# EAGLE library part NS9360 (library lbm)
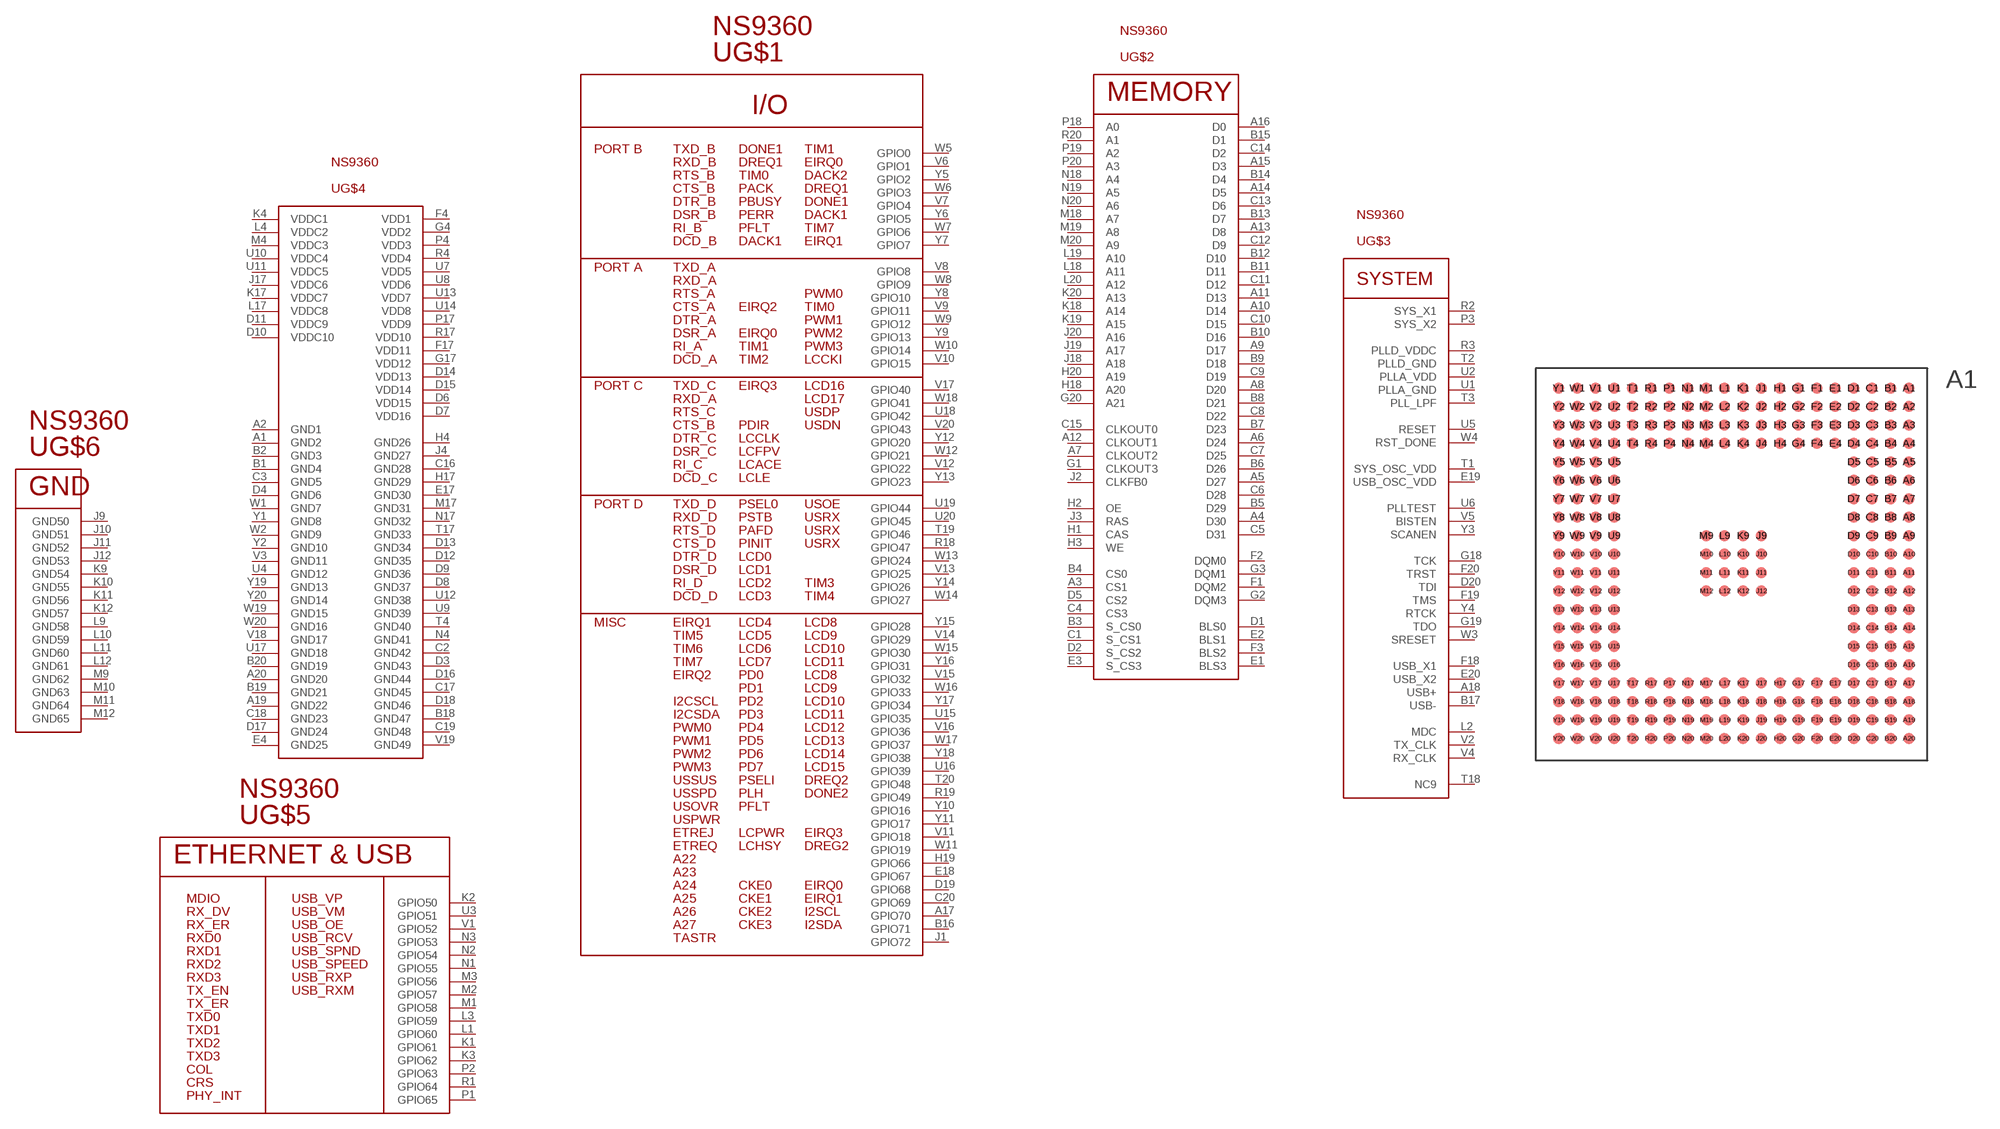
[diagram p20: symbol with the pads of NS9360; footprint NS9360]

Designator prefix -; gates G$1=NS9360_IO G$2=NS9360_MEMORY G$4=NS9360_POWER G$5=NS9360_ETHERNET_USB G$6=NS9360_GND G$3=NS9360_SYSTEM

## NS9360  [NS9360]
A1  G$4:GND2
A2  G$4:GND1
A3  G$2:CS1
A4  G$2:D30
A5  G$2:D27
A6  G$2:D24
A7  G$2:CLKOUT2
A8  G$2:D20
A9  G$2:D17
A10  G$2:D14
A11  G$2:D13
A12  G$2:CLKOUT1
A13  G$2:D8
A14  G$2:D5
A15  G$2:D3
A16  G$2:D0
A17  G$1:GPIO70
A18  G$3:USB+
A19  G$4:GND22
A20  G$4:GND20
B1  G$4:GND4
B2  G$4:GND3
B3  G$2:S_CS0
B4  G$2:CS0
B5  G$2:D29
B6  G$2:D26
B7  G$2:D23
B8  G$2:D21
B9  G$2:D18
B10  G$2:D16
B11  G$2:D11
B12  G$2:D10
B13  G$2:D7
B14  G$2:D4
B15  G$2:D1
B16  G$1:GPIO71
B17  G$3:USB-
B18  G$4:GND47
B19  G$4:GND21
B20  G$4:GND19
C1  G$2:S_CS1
C2  G$4:GND42
C3  G$4:GND5
C4  G$2:CS3
C5  G$2:D31
C6  G$2:D28
C7  G$2:D25
C8  G$2:D22
C9  G$2:D19
C10  G$2:D15
C11  G$2:D12
C12  G$2:D9
C13  G$2:D6
C14  G$2:D2
C15  G$2:CLKOUT0
C16  G$4:GND28
C17  G$4:GND45
C18  G$4:GND23
C19  G$4:GND48
C20  G$1:GPIO69
D1  G$2:BLS0
D2  G$2:S_CS2
D3  G$4:GND43
D4  G$4:GND6
D5  G$2:CS2
D6  G$4:VDD15
D7  G$4:VDD16
D8  G$4:GND37
D9  G$4:GND36
D10  G$4:VDDC10
D11  G$4:VDDC9
D12  G$4:GND35
D13  G$4:GND34
D14  G$4:VDD13
D15  G$4:VDD14
D16  G$4:GND44
D17  G$4:GND24
D18  G$4:GND46
D19  G$1:GPIO68
D20  G$3:TDI
E1  G$2:BLS3
E2  G$2:BLS1
E3  G$2:S_CS3
E4  G$4:GND25
E17  G$4:GND30
E18  G$1:GPIO67
E19  G$3:USB_OSC_VDD
E20  G$3:USB_X2
F1  G$2:DQM2
F2  G$2:DQM0
F3  G$2:BLS2
F4  G$4:VDD1
F17  G$4:VDD11
F18  G$3:USB_X1
F19  G$3:TMS
F20  G$3:TRST
G1  G$2:CLKOUT3
G2  G$2:DQM3
G3  G$2:DQM1
G4  G$4:VDD2
G17  G$4:VDD12
G18  G$3:TCK
G19  G$3:TDO
G20  G$2:A21
H1  G$2:CAS
H2  G$2:OE
H3  G$2:WE
H4  G$4:GND26
H17  G$4:GND29
H18  G$2:A20
H19  G$1:GPIO66
H20  G$2:A19
J1  G$1:GPIO72
J2  G$2:CLKFB0
J3  G$2:RAS
J4  G$4:GND27
J9  G$6:GND50
J10  G$6:GND51
J11  G$6:GND52
J12  G$6:GND53
J17  G$4:VDDC6
J18  G$2:A18
J19  G$2:A17
J20  G$2:A16
K1  G$5:GPIO61
K2  G$5:GPIO50
K3  G$5:GPIO62
K4  G$4:VDDC1
K9  G$6:GND54
K10  G$6:GND55
K11  G$6:GND56
K12  G$6:GND57
K17  G$4:VDDC7
K18  G$2:A14
K19  G$2:A15
K20  G$2:A13
L1  G$5:GPIO60
L2  G$3:MDC
L3  G$5:GPIO59
L4  G$4:VDDC2
L9  G$6:GND58
L10  G$6:GND59
L11  G$6:GND60
L12  G$6:GND61
L17  G$4:VDDC8
L18  G$2:A11
L19  G$2:A10
L20  G$2:A12
M1  G$5:GPIO58
M2  G$5:GPIO57
M3  G$5:GPIO56
M4  G$4:VDDC3
M9  G$6:GND62
M10  G$6:GND63
M11  G$6:GND64
M12  G$6:GND65
M17  G$4:GND31
M18  G$2:A7
M19  G$2:A8
M20  G$2:A9
N1  G$5:GPIO55
N2  G$5:GPIO54
N3  G$5:GPIO53
N4  G$4:GND41
N17  G$4:GND32
N18  G$2:A4
N19  G$2:A5
N20  G$2:A6
P1  G$5:GPIO65
P2  G$5:GPIO63
P3  G$3:SYS_X2
P4  G$4:VDD3
P17  G$4:VDD9
P18  G$2:A0
P19  G$2:A2
P20  G$2:A3
R1  G$5:GPIO64
R2  G$3:SYS_X1
R3  G$3:PLLD_VDDC
R4  G$4:VDD4
R17  G$4:VDD10
R18  G$1:GPIO47
R19  G$1:GPIO49
R20  G$2:A1
T1  G$3:SYS_OSC_VDD
T2  G$3:PLLD_GND
T3  G$3:PLL_LPF
T4  G$4:GND40
T17  G$4:GND33
T18  G$3:NC9
T19  G$1:GPIO46
T20  G$1:GPIO48
U1  G$3:PLLA_GND
U2  G$3:PLLA_VDD
U3  G$5:GPIO51
U4  G$4:GND12
U5  G$3:RESET
U6  G$3:PLLTEST
U7  G$4:VDD5
U8  G$4:VDD6
U9  G$4:GND39
U10  G$4:VDDC4
U11  G$4:VDDC5
U12  G$4:GND38
U13  G$4:VDD7
U14  G$4:VDD8
U15  G$1:GPIO35
U16  G$1:GPIO39
U17  G$4:GND18
U18  G$1:GPIO42
U19  G$1:GPIO44
U20  G$1:GPIO45
V1  G$5:GPIO52
V2  G$3:TX_CLK
V3  G$4:GND11
V4  G$3:RX_CLK
V5  G$3:BISTEN
V6  G$1:GPIO1
V7  G$1:GPIO4
V8  G$1:GPIO8
V9  G$1:GPIO11
V10  G$1:GPIO15
V11  G$1:GPIO18
V12  G$1:GPIO22
V13  G$1:GPIO25
V14  G$1:GPIO29
V15  G$1:GPIO32
V16  G$1:GPIO36
V17  G$1:GPIO40
V18  G$4:GND17
V19  G$4:GND49
V20  G$1:GPIO43
W1  G$4:GND7
W2  G$4:GND9
W3  G$3:SRESET
W4  G$3:RST_DONE
W5  G$1:GPIO0
W6  G$1:GPIO3
W7  G$1:GPIO6
W8  G$1:GPIO9
W9  G$1:GPIO12
W10  G$1:GPIO14
W11  G$1:GPIO19
W12  G$1:GPIO21
W13  G$1:GPIO24
W14  G$1:GPIO27
W15  G$1:GPIO30
W16  G$1:GPIO33
W17  G$1:GPIO37
W18  G$1:GPIO41
W19  G$4:GND15
W20  G$4:GND16
Y1  G$4:GND8
Y2  G$4:GND10
Y3  G$3:SCANEN
Y4  G$3:RTCK
Y5  G$1:GPIO2
Y6  G$1:GPIO5
Y7  G$1:GPIO7
Y8  G$1:GPIO10
Y9  G$1:GPIO13
Y10  G$1:GPIO16
Y11  G$1:GPIO17
Y12  G$1:GPIO20
Y13  G$1:GPIO23
Y14  G$1:GPIO26
Y15  G$1:GPIO28
Y16  G$1:GPIO31
Y17  G$1:GPIO34
Y18  G$1:GPIO38
Y19  G$4:GND13
Y20  G$4:GND14

## Footprint NS9360 (pad centres in mm)
smd 0.762 x 0.762: A1 0,0; A2 0,-1.27; A3 0,-2.54; A4 0,-3.81; A5 0,-5.08; A6 0,-6.35; A7 0,-7.62; A8 0,-8.89; A9 0,-10.16; A10 0,-11.43; A11 0,-12.7; A12 0,-13.97; A13 0,-15.24; A14 0,-16.51; A15 0,-17.78; A16 0,-19.05; A17 0,-20.32; A18 0,-21.59; A19 0,-22.86; A20 0,-24.13; B1 -1.27,0; B2 -1.27,-1.27; B3 -1.27,-2.54; B4 -1.27,-3.81; B5 -1.27,-5.08; B6 -1.27,-6.35; B7 -1.27,-7.62; B8 -1.27,-8.89; B9 -1.27,-10.16; B10 -1.27,-11.43; B11 -1.27,-12.7; B12 -1.27,-13.97; B13 -1.27,-15.24; B14 -1.27,-16.51; B15 -1.27,-17.78; B16 -1.27,-19.05; B17 -1.27,-20.32; B18 -1.27,-21.59; B19 -1.27,-22.86; B20 -1.27,-24.13; C1 -2.54,0; C2 -2.54,-1.27; C3 -2.54,-2.54; C4 -2.54,-3.81; C5 -2.54,-5.08; C6 -2.54,-6.35; C7 -2.54,-7.62; C8 -2.54,-8.89; C9 -2.54,-10.16; C10 -2.54,-11.43; C11 -2.54,-12.7; C12 -2.54,-13.97; C13 -2.54,-15.24; C14 -2.54,-16.51; C15 -2.54,-17.78; C16 -2.54,-19.05; C17 -2.54,-20.32; C18 -2.54,-21.59; C19 -2.54,-22.86; C20 -2.54,-24.13; D1 -3.81,0; D2 -3.81,-1.27; D3 -3.81,-2.54; D4 -3.81,-3.81; D5 -3.81,-5.08; D6 -3.81,-6.35; D7 -3.81,-7.62; D8 -3.81,-8.89; D9 -3.81,-10.16; D10 -3.81,-11.43; D11 -3.81,-12.7; D12 -3.81,-13.97; D13 -3.81,-15.24; D14 -3.81,-16.51; D15 -3.81,-17.78; D16 -3.81,-19.05; D17 -3.81,-20.32; D18 -3.81,-21.59; D19 -3.81,-22.86; D20 -3.81,-24.13; E1 -5.08,0; E2 -5.08,-1.27; E3 -5.08,-2.54; E4 -5.08,-3.81; E17 -5.08,-20.32; E18 -5.08,-21.59; E19 -5.08,-22.86; E20 -5.08,-24.13; F1 -6.35,0; F2 -6.35,-1.27; F3 -6.35,-2.54; F4 -6.35,-3.81; F17 -6.35,-20.32; F18 -6.35,-21.59; F19 -6.35,-22.86; F20 -6.35,-24.13; G1 -7.62,0; G2 -7.62,-1.27; G3 -7.62,-2.54; G4 -7.62,-3.81; G17 -7.62,-20.32; G18 -7.62,-21.59; G19 -7.62,-22.86; G20 -7.62,-24.13; H1 -8.89,0; H2 -8.89,-1.27; H3 -8.89,-2.54; H4 -8.89,-3.81; H17 -8.89,-20.32; H18 -8.89,-21.59; H19 -8.89,-22.86; H20 -8.89,-24.13; J1 -10.16,0; J2 -10.16,-1.27; J3 -10.16,-2.54; J4 -10.16,-3.81; J9 -10.16,-10.16; J10 -10.16,-11.43; J11 -10.16,-12.7; J12 -10.16,-13.97; J17 -10.16,-20.32; J18 -10.16,-21.59; J19 -10.16,-22.86; J20 -10.16,-24.13; K1 -11.43,0; K2 -11.43,-1.27; K3 -11.43,-2.54; K4 -11.43,-3.81; K9 -11.43,-10.16; K10 -11.43,-11.43; K11 -11.43,-12.7; K12 -11.43,-13.97; K17 -11.43,-20.32; K18 -11.43,-21.59; K19 -11.43,-22.86; K20 -11.43,-24.13; L1 -12.7,0; L2 -12.7,-1.27; L3 -12.7,-2.54; L4 -12.7,-3.81; L9 -12.7,-10.16; L10 -12.7,-11.43; L11 -12.7,-12.7; L12 -12.7,-13.97; L17 -12.7,-20.32; L18 -12.7,-21.59; L19 -12.7,-22.86; L20 -12.7,-24.13; M1 -13.97,0; M2 -13.97,-1.27; M3 -13.97,-2.54; M4 -13.97,-3.81; M9 -13.97,-10.16; M10 -13.97,-11.43; M11 -13.97,-12.7; M12 -13.97,-13.97; M17 -13.97,-20.32; M18 -13.97,-21.59; M19 -13.97,-22.86; M20 -13.97,-24.13; N1 -15.24,0; N2 -15.24,-1.27; N3 -15.24,-2.54; N4 -15.24,-3.81; N17 -15.24,-20.32; N18 -15.24,-21.59; N19 -15.24,-22.86; N20 -15.24,-24.13; P1 -16.51,0; P2 -16.51,-1.27; P3 -16.51,-2.54; P4 -16.51,-3.81; P17 -16.51,-20.32; P18 -16.51,-21.59; P19 -16.51,-22.86; P20 -16.51,-24.13; R1 -17.78,0; R2 -17.78,-1.27; R3 -17.78,-2.54; R4 -17.78,-3.81; R17 -17.78,-20.32; R18 -17.78,-21.59; R19 -17.78,-22.86; R20 -17.78,-24.13; T1 -19.05,0; T2 -19.05,-1.27; T3 -19.05,-2.54; T4 -19.05,-3.81; T17 -19.05,-20.32; T18 -19.05,-21.59; T19 -19.05,-22.86; T20 -19.05,-24.13; U1 -20.32,0; U2 -20.32,-1.27; U3 -20.32,-2.54; U4 -20.32,-3.81; U5 -20.32,-5.08; U6 -20.32,-6.35; U7 -20.32,-7.62; U8 -20.32,-8.89; U9 -20.32,-10.16; U10 -20.32,-11.43; U11 -20.32,-12.7; U12 -20.32,-13.97; U13 -20.32,-15.24; U14 -20.32,-16.51; U15 -20.32,-17.78; U16 -20.32,-19.05; U17 -20.32,-20.32; U18 -20.32,-21.59; U19 -20.32,-22.86; U20 -20.32,-24.13; V1 -21.59,0; V2 -21.59,-1.27; V3 -21.59,-2.54; V4 -21.59,-3.81; V5 -21.59,-5.08; V6 -21.59,-6.35; V7 -21.59,-7.62; V8 -21.59,-8.89; V9 -21.59,-10.16; V10 -21.59,-11.43; V11 -21.59,-12.7; V12 -21.59,-13.97; V13 -21.59,-15.24; V14 -21.59,-16.51; V15 -21.59,-17.78; V16 -21.59,-19.05; V17 -21.59,-20.32; V18 -21.59,-21.59; V19 -21.59,-22.86; V20 -21.59,-24.13; W1 -22.86,0; W2 -22.86,-1.27; W3 -22.86,-2.54; W4 -22.86,-3.81; W5 -22.86,-5.08; W6 -22.86,-6.35; W7 -22.86,-7.62; W8 -22.86,-8.89; W9 -22.86,-10.16; W10 -22.86,-11.43; W11 -22.86,-12.7; W12 -22.86,-13.97; W13 -22.86,-15.24; W14 -22.86,-16.51; W15 -22.86,-17.78; W16 -22.86,-19.05; W17 -22.86,-20.32; W18 -22.86,-21.59; W19 -22.86,-22.86; W20 -22.86,-24.13; Y1 -24.13,0; Y2 -24.13,-1.27; Y3 -24.13,-2.54; Y4 -24.13,-3.81; Y5 -24.13,-5.08; Y6 -24.13,-6.35; Y7 -24.13,-7.62; Y8 -24.13,-8.89; Y9 -24.13,-10.16; Y10 -24.13,-11.43; Y11 -24.13,-12.7; Y12 -24.13,-13.97; Y13 -24.13,-15.24; Y14 -24.13,-16.51; Y15 -24.13,-17.78; Y16 -24.13,-19.05; Y17 -24.13,-20.32; Y18 -24.13,-21.59; Y19 -24.13,-22.86; Y20 -24.13,-24.13